# Altium footprint library LEDBoard.PcbLib: 5 footprints
Each footprint in its own frame and in the unit in brackets; x right, y up, seen from the top. Pads: shape width x height; smd on the part's side, far side on the other; paste and mask are expansions set on the pad; w line width, h text height; cw(c..) or ccw(c..) is an arc to the next point about the centre after c.
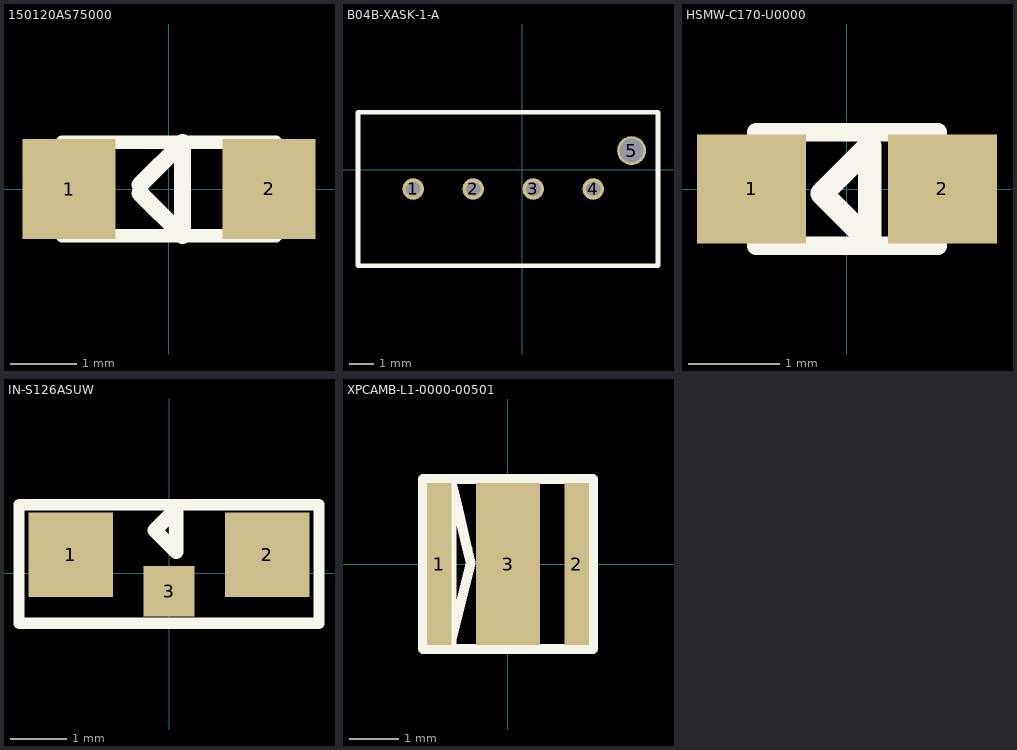
[diagram p0: the footprints below, top view; thin cyan lines are the x and y axes]

## 150120AS75000 [mm]
pads (2):
  rect 1.4x1.5 smd: 1(-1.5,0) 2(1.5,0)
Top Overlay:
  lines w0.2: -1.6,-0.7 1.6,-0.7 1.6,0.7 -1.6,0.7 -1.6,-0.7
  lines w0.254: -0.435,-0.064 0.2,-0.699 0.2,0.699 -0.435,0.064
3D body "150120AS75000_Download_STP_WL-SMCW-1206_rev1.stp": height 0.68, standoff 0, extent -1.6,-0.8 1.6,0.8

## B04B-XASK-1-A [mm]
pads (5):
  round 0.9 hole 0.6: 1(-4.55,-0.8) 2(-2.05,-0.8) 3(0.45,-0.8) 4(2.95,-0.8)
  round 1.2 hole 1: 5(4.55,0.8)
Top Overlay:
  lines w0.2: -6.85,-4 5.65,-4 5.65,2.4 -6.85,2.4 -6.85,-4
3D body "B04B-XASK-1-A.STEP": height 8.81, standoff -3.39, extent -7.05,-4 5.45,2.4

## HSMW-C170-U0000 [mm]
pads (2):
  rect 1.2x1.2 smd: 1(-1.05,0) 2(1.05,0)
Top Overlay:
  lines w0.2: -1,-0.625 1,-0.625 1,0.625 -1,0.625 -1,-0.625
  lines w0.254: -0.275,-0.05 0.225,-0.55 ; -0.25,-0.025 0.25,0.475 0.25,-0.55

## IN-S126ASUW [mm]
pads (3):
  rect 1.5x1.5 smd: 1(-1.75,0.325) 2(1.75,0.325)
  rect 0.9x0.9 smd: 3(0,-0.325)
Top Overlay:
  lines w0.2: -2.667,-0.889 -2.667,1.214 2.667,1.214 2.667,-0.889 -2.667,-0.889
  lines w0.254: -0.254,0.762 0.127,0.381 0.127,1.143 -0.254,0.762

## XPCAMB-L1-0000-00501 [mm]
pads (3):
  rect 0.5x3.3 smd: 1(-1.4,0) 2(1.4,0)
  rect 1.3x3.3 smd: 3(0,0)
Top Overlay:
  lines w0.2: -1.143,-1.725 -1.143,1.651 -1.037,1.203 ; -1.143,-1.524 -0.758,0.018 -0.826,0.306 -1.037,1.203 ; -1.037,1.203 -1.037,1.203 ; -1.725,-1.725 1.725,-1.725 1.725,1.725 -1.725,1.725 -1.725,-1.725